# Altium footprint library MAX_MAX1510ETB_10TDFN_T1033+1.PcbLib: 1 footprints
Each footprint in its own frame and in the unit in brackets; x right, y up, seen from the top. Pads: shape width x height; smd on the part's side, far side on the other; paste and mask are expansions set on the pad; w line width, h text height; cw(c..) or ccw(c..) is an arc to the next point about the centre after c.
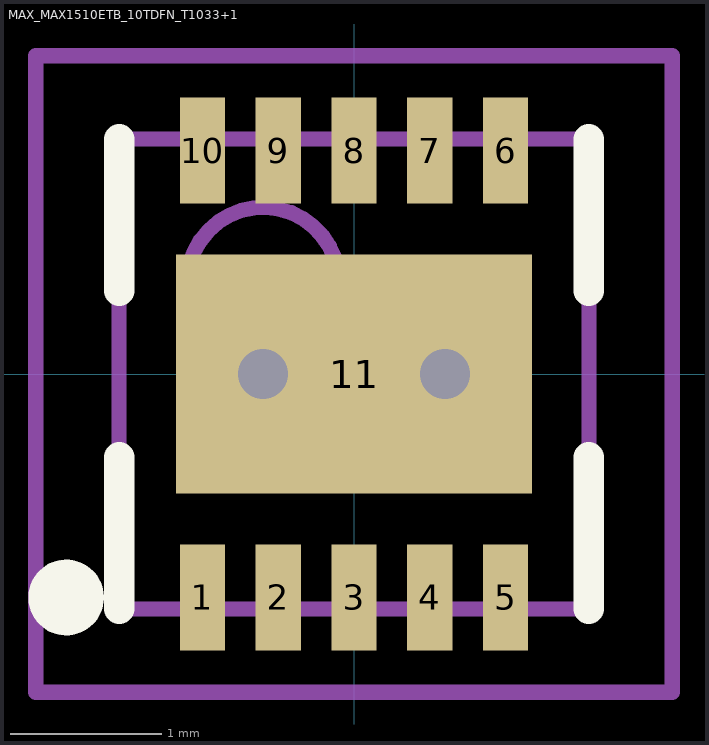
[diagram p0: the footprint, top view; thin cyan lines are the x and y axes]

## MAX_MAX1510ETB_10TDFN_T1033+1 [mm] "MAX1510ETB, Low-Voltage, DDR Linear Regulators, DFN10"
height 0.8
pads (11):
  rect 0.3x0.7 smd: 1(-1,-1.475) 2(-0.5,-1.475) 3(0,-1.475) 4(0.5,-1.475) 5(1,-1.475) 6(1,1.475) 7(0.5,1.475) 8(0,1.475) 9(-0.5,1.475) 10(-1,1.475)
  rect 2.35x1.58 smd: 11(0,0)
via 0.6,0 diameter 0.66 hole 0.33
via -0.6,0 diameter 0.66 hole 0.33
Top Overlay:
  circle w0.25: c-1.9,-1.475 r0.125
  lines w0.2: -1.55,-1.55 -1.55,-0.55 ; -1.55,0.55 -1.55,1.55 ; 1.55,-1.55 1.55,-0.55 ; 1.55,0.55 1.55,1.55
Mechanical 13:
  circle w0.1: c-0.6,0.6 r0.5
  lines w0.1: -1.55,-1.55 1.55,-1.55 1.55,1.55 -1.55,1.55 -1.55,-1.55
Mechanical 15:
  lines w0.1: -0.5,0 0.5,0 ; 0,-0.5 0,0.5 ; -2.1,-2.1 2.1,-2.1 2.1,2.1 -2.1,2.1 -2.1,-2.1
3D body: height 0.8, standoff 0, extent -1.55,-1.55 1.55,1.55